# EAGLE library part CALUNIUM-SHIELD-V2 (library SteveMarple)
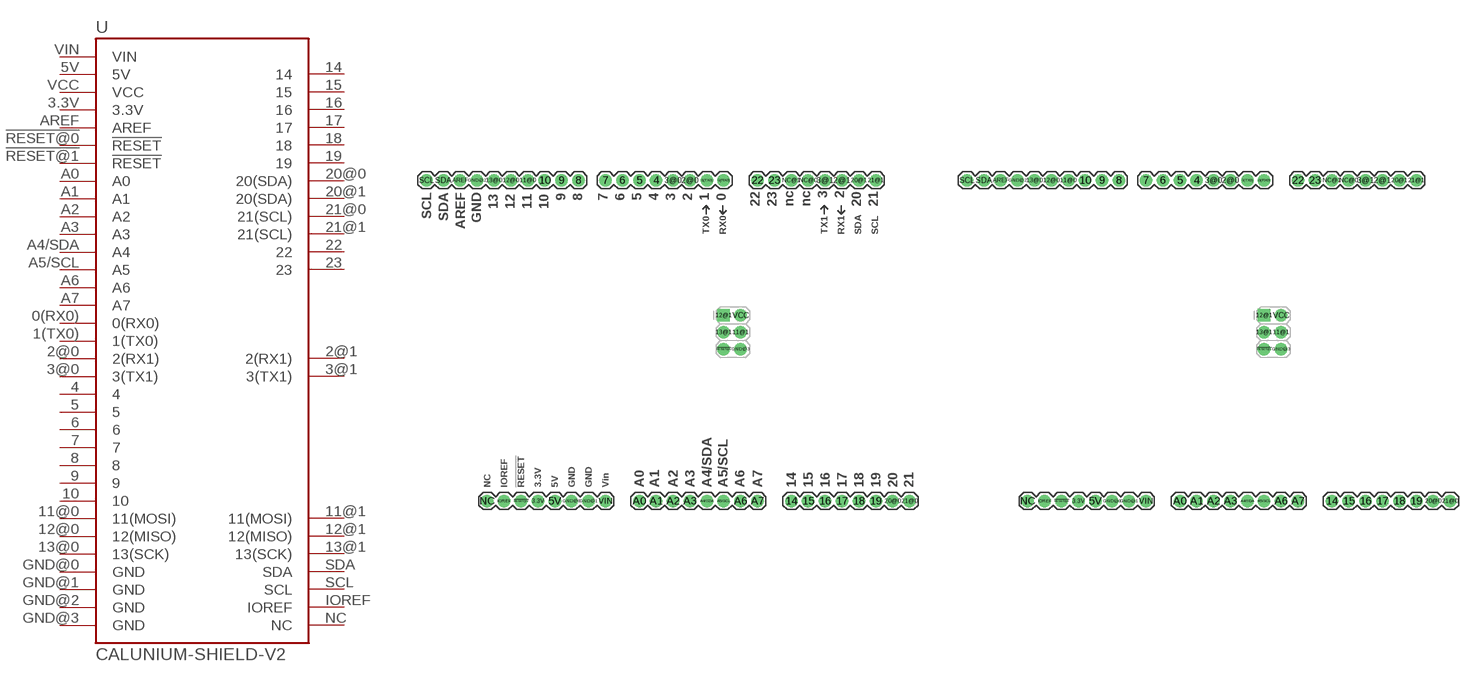
[diagram p13: symbol with the pads of CALUNIUM-SHIELD-NO-OUTLINE-NO-HOLES-V2; footprints CALUNIUM-SHIELD-NO-OUTLINE-NO-HOLES-V2, CALUNIUM-SHIELD-NO-OUTLINE-NO-HOLES-NO-TEXT-V2]

Designator prefix -

## CALUNIUM-SHIELD-V2  [CALUNIUM-SHIELD-NO-OUTLINE-NO-HOLES-V2]
0(RX0)  0(RX0)
1(TX0)  1(TX0)
2@0  2(RX1)
2@1  2(RX1)
3.3V  3.3V
3@0  3(TX1)
3@1  3(TX1)
4  4
5  5
5V  5V
6  6
7  7
8  8
9  9
10  10
11@0  11(MOSI)
11@1  11(MOSI)
12@0  12(MISO)
12@1  12(MISO)
13@0  13(SCK)
13@1  13(SCK)
14  14
15  15
16  16
17  17
18  18
19  19
20@0  20(SDA)
20@1  20(SDA)
21@0  21(SCL)
21@1  21(SCL)
22  22
23  23
!RESET@0  !RESET
!RESET@1  !RESET
A0  A0
A1  A1
A2  A2
A3  A3
A4/SDA  A4
A5/SCL  A5
A6  A6
A7  A7
AREF  AREF
GND@0  GND
GND@1  GND
GND@2  GND
GND@3  GND
IOREF  IOREF
NC  NC
SCL  SCL
SDA  SDA
VCC  VCC
VIN  VIN

## CALUNIUM-SHIELD-V2NO-OUTLINE-NO-HOLES-NO-TEXT  [CALUNIUM-SHIELD-NO-OUTLINE-NO-HOLES-NO-TEXT-V2]
Pads as for CALUNIUM-SHIELD-NO-OUTLINE-NO-HOLES-V2

## Footprint CALUNIUM-SHIELD-NO-OUTLINE-NO-HOLES-V2 (pad centres in mm)
drill 1.016 pad 1.88: 0(RX0) 0,21.59; 1(TX0) -2.54,21.59; 2@0 -5.08,21.59; 2@1 17.78,21.59; 3.3V -27.94,-26.67; 3@0 -7.62,21.59; 3@1 15.24,21.59; 4 -10.16,21.59; 5 -12.7,21.59; 5V -25.4,-26.67; 6 -15.24,21.59; 7 -17.78,21.59; 8 -21.844,21.59; 9 -24.384,21.59; 10 -26.924,21.59; 11@0 -29.464,21.59; 11@1 2.54,-1.27; 12@0 -32.004,21.59; 13@0 -34.544,21.59; 13@1 0,-1.27; 14 10.16,-26.67; 15 12.7,-26.67; 16 15.24,-26.67; 17 17.78,-26.67; 18 20.32,-26.67; 19 22.86,-26.67; 20@0 25.4,-26.67; 20@1 20.32,21.59; 21@0 27.94,-26.67; 21@1 22.86,21.59; 22 5.08,21.59; 23 7.62,21.59; !RESET@0 -30.48,-26.67; !RESET@1 0,-3.81; A0 -12.7,-26.67; A1 -10.16,-26.67; A2 -7.62,-26.67; A3 -5.08,-26.67; A4/SDA -2.54,-26.67; A5/SCL 0,-26.67; A6 2.54,-26.67; A7 5.08,-26.67; AREF -39.624,21.59; GND@0 -22.86,-26.67; GND@1 -20.32,-26.67; GND@2 -37.084,21.59; GND@3 2.54,-3.81; IOREF -33.02,-26.67; NC -35.56,-26.67; NC@0 12.7,21.59; NC@1 10.16,21.59; SCL -44.704,21.59; SDA -42.164,21.59; VCC 2.54,1.27; VIN -17.78,-26.67
drill 1.016 pad 1.88 square: 12@1 0,1.27

## Footprint CALUNIUM-SHIELD-NO-OUTLINE-NO-HOLES-NO-TEXT-V2 (pad centres in mm)
drill 1.016 pad 1.88: 0(RX0) 0,21.59; 1(TX0) -2.54,21.59; 2@0 -5.08,21.59; 2@1 17.78,21.59; 3.3V -27.94,-26.67; 3@0 -7.62,21.59; 3@1 15.24,21.59; 4 -10.16,21.59; 5 -12.7,21.59; 5V -25.4,-26.67; 6 -15.24,21.59; 7 -17.78,21.59; 8 -21.844,21.59; 9 -24.384,21.59; 10 -26.924,21.59; 11@0 -29.464,21.59; 11@1 2.54,-1.27; 12@0 -32.004,21.59; 13@0 -34.544,21.59; 13@1 0,-1.27; 14 10.16,-26.67; 15 12.7,-26.67; 16 15.24,-26.67; 17 17.78,-26.67; 18 20.32,-26.67; 19 22.86,-26.67; 20@0 25.4,-26.67; 20@1 20.32,21.59; 21@0 27.94,-26.67; 21@1 22.86,21.59; 22 5.08,21.59; 23 7.62,21.59; !RESET@0 -30.48,-26.67; !RESET@1 0,-3.81; A0 -12.7,-26.67; A1 -10.16,-26.67; A2 -7.62,-26.67; A3 -5.08,-26.67; A4/SDA -2.54,-26.67; A5/SCL 0,-26.67; A6 2.54,-26.67; A7 5.08,-26.67; AREF -39.624,21.59; GND@0 -22.86,-26.67; GND@1 -20.32,-26.67; GND@2 -37.084,21.59; GND@3 2.54,-3.81; IOREF -33.02,-26.67; NC -35.56,-26.67; NC@0 12.7,21.59; NC@1 10.16,21.59; SCL -44.704,21.59; SDA -42.164,21.59; VCC 2.54,1.27; VIN -17.78,-26.67
drill 1.016 pad 1.88 square: 12@1 0,1.27